# EAGLE library part AKL59-10 (library con-ria-59)
RIA Anschlussklemme Typ 59, Raster 3,5 mm, Polzahl 10
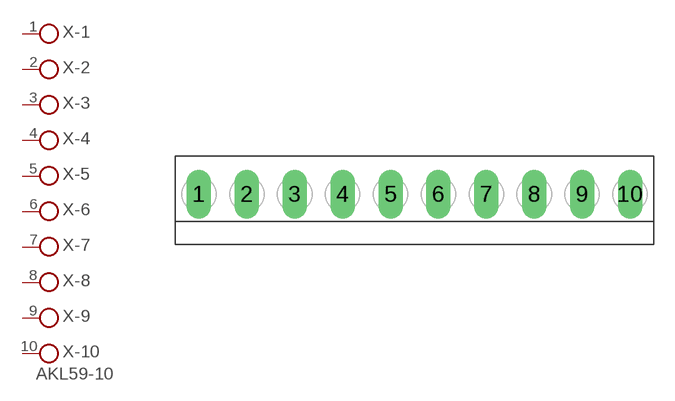
[diagram p4: symbol with the pads of 10POL35; footprint 10POL35]

Designator prefix X; gates -1=PIN -2=PIN -3=PIN -4=PIN -5=PIN -6=PIN -7=PIN -8=PIN -9=PIN -10=PINV

## AKL59-10  [10POL35]
1  -1:1  pas
2  -2:1  pas
3  -3:1  pas
4  -4:1  pas
5  -5:1  pas
6  -6:1  pas
7  -7:1  pas
8  -8:1  pas
9  -9:1  pas
10  -10:1  pas

## Footprint 10POL35 (pad centres in mm)
Raster 3,5 mm, Polzahl 10
drill 1.2 long: 1 -15.75,0; 2 -12.25,0; 3 -8.75,0; 4 -5.25,0; 5 -1.75,0; 6 1.75,0; 7 5.25,0; 8 8.75,0; 9 12.25,0; 10 15.75,0